# Altium footprint library Res-Array-1206.PcbLib: 1 footprints
Each footprint in its own frame and in the unit in brackets; x right, y up, seen from the top. Pads: shape width x height; smd on the part's side, far side on the other; paste and mask are expansions set on the pad; w line width, h text height; cw(c..) or ccw(c..) is an arc to the next point about the centre after c.
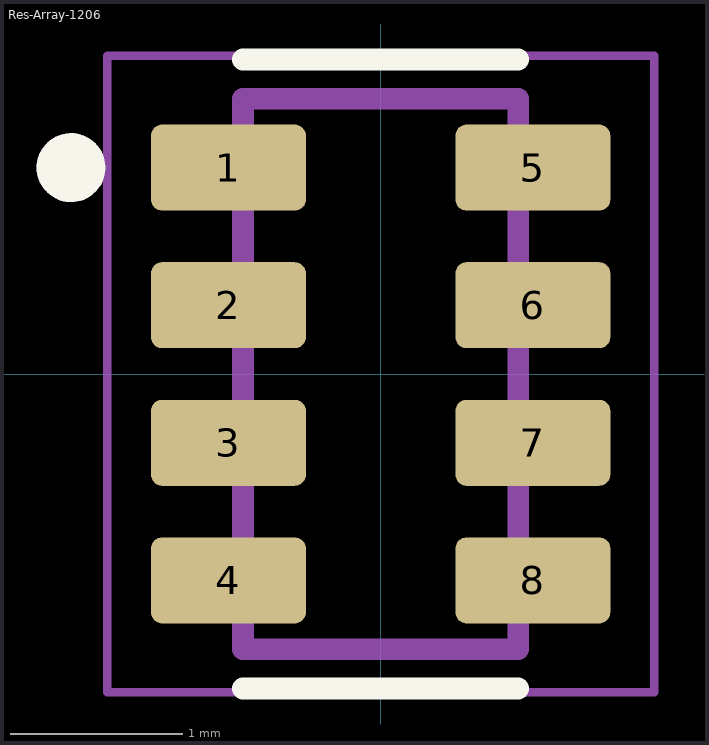
[diagram p0: the footprint, top view; thin cyan lines are the x and y axes]

## Res-Array-1206 [mm]
pads (8):
  rrect25% 0.9x0.5 smd: 1(-0.885,1.2) 2(-0.885,0.4) 3(-0.885,-0.4) 4(-0.885,-1.2) 5(0.885,1.2) 6(0.885,0.4) 7(0.885,-0.4) 8(0.885,-1.2)
Top Overlay:
  circle w0.2: c-1.8,1.2 r0.1
  lines w0.127: -0.8,-1.829 0.8,-1.829 ; -0.8,1.829 0.8,1.829
Mechanical 13:
  circle w0.2: c-1.8,1.2 r0.1
  lines w0.127: -0.8,-1.6 0.8,-1.6 0.8,1.6 -0.8,1.6 -0.8,-1.6
Mechanical 15:
  lines w0.05: -1.59,-1.85 1.59,-1.85 1.59,1.85 -1.59,1.85 -1.59,-1.85